# Altium footprint library HARTING Footprints.PcbLib: 317 footprints (part 16 of 20)
Each footprint in its own frame and in the unit in brackets; x right, y up, seen from the top. Pads: shape width x height; smd on the part's side, far side on the other; paste and mask are expansions set on the pad; w line width, h text height; cw(c..) or ccw(c..) is an arc to the next point about the centre after c.
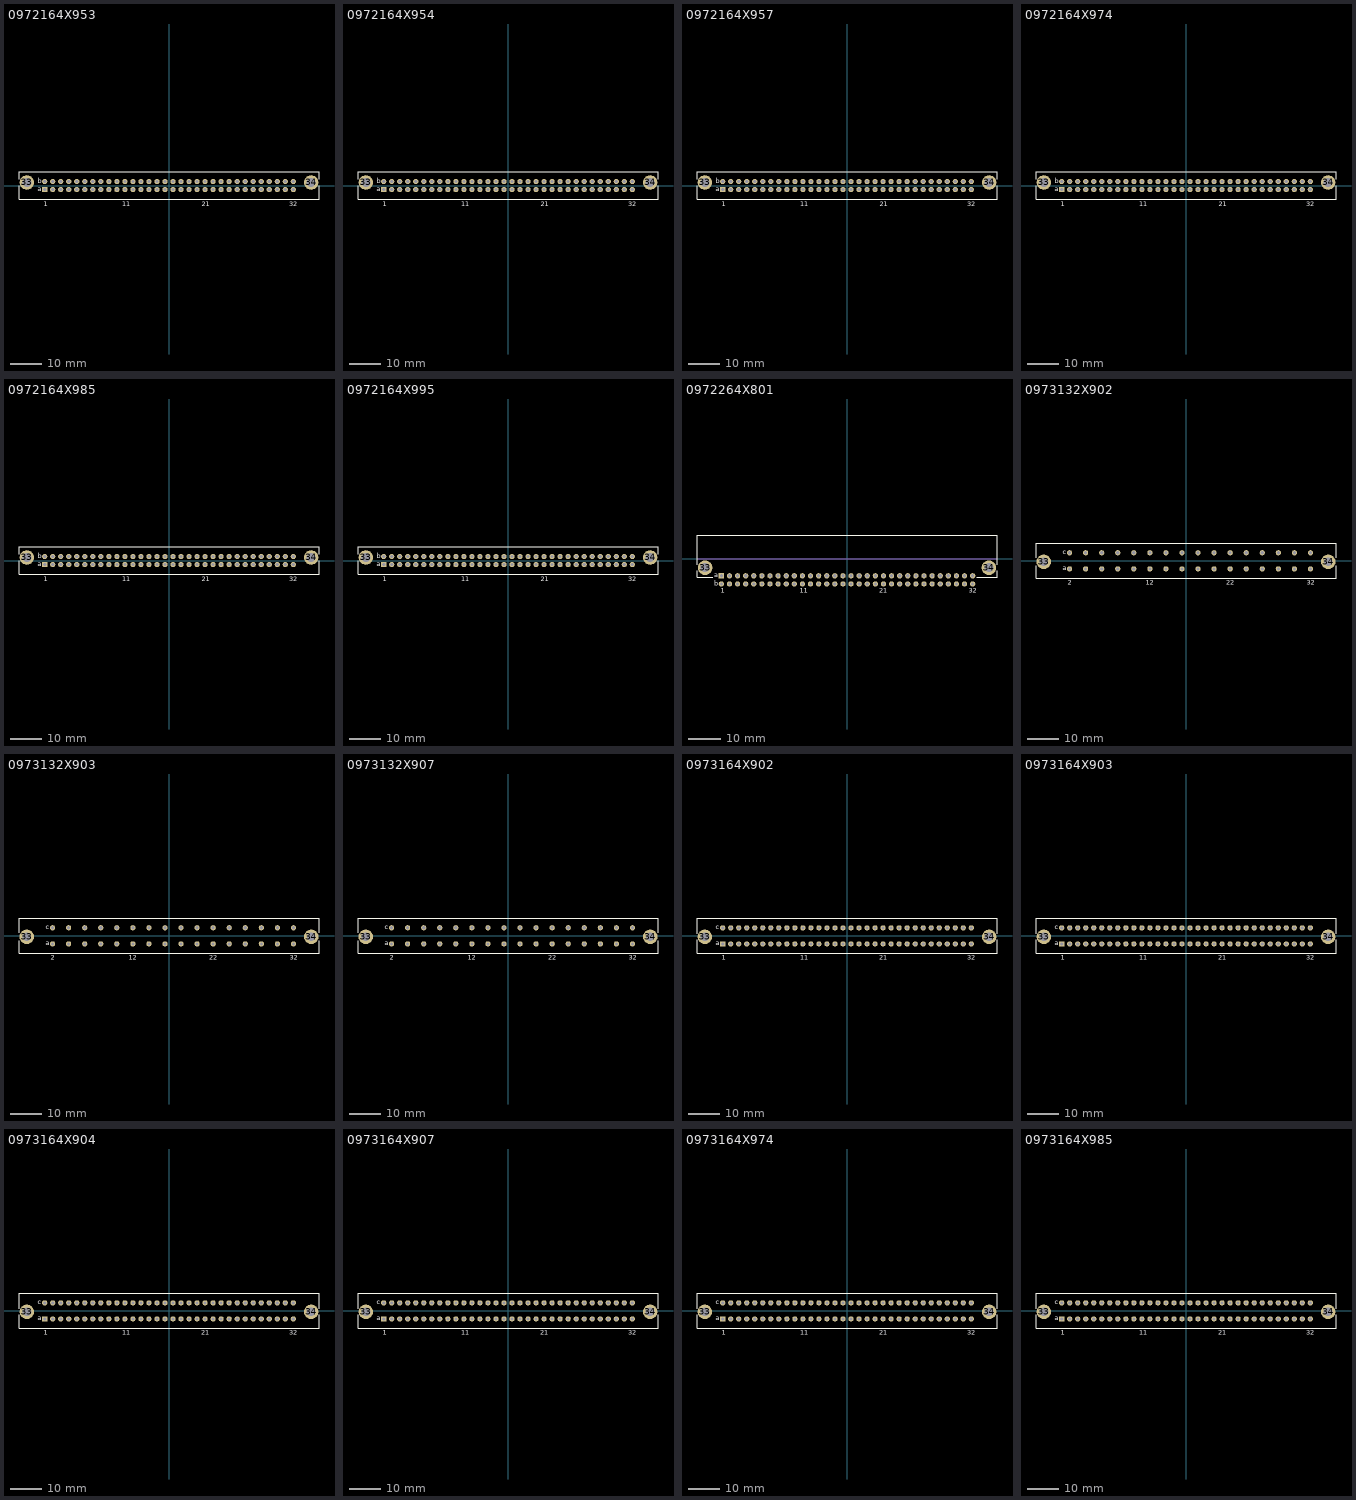
[diagram p15: the footprints below, top view; thin cyan lines are the x and y axes]

## 0972164X953 [mm] "Connector; DIN 41612, Type Q, Thru-Hole; Rows a+b, 64 Position; Vertical"
height 11.6
pads (66):
  round 4.6 hole 2.8: 33(-45,0.97) 34(45,0.97)
  rect 1.65x1.65 hole 1: A1(-39.37,-1.27)
  round 1.65 hole 1: A2(-36.83,-1.27) A3(-34.29,-1.27) A4(-31.75,-1.27) A5(-29.21,-1.27) A6(-26.67,-1.27) A7(-24.13,-1.27) A8(-21.59,-1.27) A9(-19.05,-1.27) A10(-16.51,-1.27) A11(-13.97,-1.27) A12(-11.43,-1.27) A13(-8.89,-1.27) A14(-6.35,-1.27) A15(-3.81,-1.27) A16(-1.27,-1.27) A17(1.27,-1.27) A18(3.81,-1.27) A19(6.35,-1.27) A20(8.89,-1.27) A21(11.43,-1.27) A22(13.97,-1.27) A23(16.51,-1.27) A24(19.05,-1.27) A25(21.59,-1.27) A26(24.13,-1.27) A27(26.67,-1.27) A28(29.21,-1.27) A29(31.75,-1.27) A30(34.29,-1.27) A31(36.83,-1.27) A32(39.37,-1.27) B1(-39.37,1.27) B2(-36.83,1.27) B3(-34.29,1.27) B4(-31.75,1.27) B5(-29.21,1.27) B6(-26.67,1.27) B7(-24.13,1.27) B8(-21.59,1.27) B9(-19.05,1.27) B10(-16.51,1.27) B11(-13.97,1.27) B12(-11.43,1.27) B13(-8.89,1.27) B14(-6.35,1.27) B15(-3.81,1.27) B16(-1.27,1.27) B17(1.27,1.27) B18(3.81,1.27) B19(6.35,1.27) B20(8.89,1.27) B21(11.43,1.27) B22(13.97,1.27) B23(16.51,1.27) B24(19.05,1.27) B25(21.59,1.27) B26(24.13,1.27) B27(26.67,1.27) B28(29.21,1.27) B29(31.75,1.27) B30(34.29,1.27) B31(36.83,1.27) B32(39.37,1.27)
Top Overlay:
  lines w0.2: -47.5,-0.13 -47.5,-4.3 47.5,-4.3 47.5,-0.13 ; -47.5,2.07 -47.5,4.3 47.5,4.3 47.5,2.07
  text "1" at -39.62,-6.48 h1.5
  text "a" at -41.58,-1.77 h1.5
  text "b" at -41.58,0.77 h1.5
  text "32" at 38.12,-6.48 h1.5
  text "11" at -14.82,-6.48 h1.5
  text "21" at 10.43,-6.48 h1.5

## 0972164X954 [mm] "Connector; DIN 41612, Type Q, Thru-Hole; Rows a+b, 64 Position; Vertical"
height 11.6
pads (66):
  round 4.6 hole 2.8: 33(-45,0.97) 34(45,0.97)
  rect 1.65x1.65 hole 1: A1(-39.37,-1.27)
  round 1.65 hole 1: A2(-36.83,-1.27) A3(-34.29,-1.27) A4(-31.75,-1.27) A5(-29.21,-1.27) A6(-26.67,-1.27) A7(-24.13,-1.27) A8(-21.59,-1.27) A9(-19.05,-1.27) A10(-16.51,-1.27) A11(-13.97,-1.27) A12(-11.43,-1.27) A13(-8.89,-1.27) A14(-6.35,-1.27) A15(-3.81,-1.27) A16(-1.27,-1.27) A17(1.27,-1.27) A18(3.81,-1.27) A19(6.35,-1.27) A20(8.89,-1.27) A21(11.43,-1.27) A22(13.97,-1.27) A23(16.51,-1.27) A24(19.05,-1.27) A25(21.59,-1.27) A26(24.13,-1.27) A27(26.67,-1.27) A28(29.21,-1.27) A29(31.75,-1.27) A30(34.29,-1.27) A31(36.83,-1.27) A32(39.37,-1.27) B1(-39.37,1.27) B2(-36.83,1.27) B3(-34.29,1.27) B4(-31.75,1.27) B5(-29.21,1.27) B6(-26.67,1.27) B7(-24.13,1.27) B8(-21.59,1.27) B9(-19.05,1.27) B10(-16.51,1.27) B11(-13.97,1.27) B12(-11.43,1.27) B13(-8.89,1.27) B14(-6.35,1.27) B15(-3.81,1.27) B16(-1.27,1.27) B17(1.27,1.27) B18(3.81,1.27) B19(6.35,1.27) B20(8.89,1.27) B21(11.43,1.27) B22(13.97,1.27) B23(16.51,1.27) B24(19.05,1.27) B25(21.59,1.27) B26(24.13,1.27) B27(26.67,1.27) B28(29.21,1.27) B29(31.75,1.27) B30(34.29,1.27) B31(36.83,1.27) B32(39.37,1.27)
Top Overlay:
  lines w0.2: -47.5,-0.13 -47.5,-4.3 47.5,-4.3 47.5,-0.13 ; -47.5,2.07 -47.5,4.3 47.5,4.3 47.5,2.07
  text "1" at -39.62,-6.48 h1.5
  text "a" at -41.58,-1.77 h1.5
  text "b" at -41.58,0.77 h1.5
  text "32" at 38.12,-6.48 h1.5
  text "11" at -14.82,-6.48 h1.5
  text "21" at 10.43,-6.48 h1.5

## 0972164X957 [mm] "Connector; DIN 41612, Type Q, Thru-Hole; Rows a+b, 64 Position; Vertical"
height 11.6
pads (66):
  round 4.6 hole 2.8: 33(-45,0.97) 34(45,0.97)
  rect 1.65x1.65 hole 1: A1(-39.37,-1.27)
  round 1.65 hole 1: A2(-36.83,-1.27) A3(-34.29,-1.27) A4(-31.75,-1.27) A5(-29.21,-1.27) A6(-26.67,-1.27) A7(-24.13,-1.27) A8(-21.59,-1.27) A9(-19.05,-1.27) A10(-16.51,-1.27) A11(-13.97,-1.27) A12(-11.43,-1.27) A13(-8.89,-1.27) A14(-6.35,-1.27) A15(-3.81,-1.27) A16(-1.27,-1.27) A17(1.27,-1.27) A18(3.81,-1.27) A19(6.35,-1.27) A20(8.89,-1.27) A21(11.43,-1.27) A22(13.97,-1.27) A23(16.51,-1.27) A24(19.05,-1.27) A25(21.59,-1.27) A26(24.13,-1.27) A27(26.67,-1.27) A28(29.21,-1.27) A29(31.75,-1.27) A30(34.29,-1.27) A31(36.83,-1.27) A32(39.37,-1.27) B1(-39.37,1.27) B2(-36.83,1.27) B3(-34.29,1.27) B4(-31.75,1.27) B5(-29.21,1.27) B6(-26.67,1.27) B7(-24.13,1.27) B8(-21.59,1.27) B9(-19.05,1.27) B10(-16.51,1.27) B11(-13.97,1.27) B12(-11.43,1.27) B13(-8.89,1.27) B14(-6.35,1.27) B15(-3.81,1.27) B16(-1.27,1.27) B17(1.27,1.27) B18(3.81,1.27) B19(6.35,1.27) B20(8.89,1.27) B21(11.43,1.27) B22(13.97,1.27) B23(16.51,1.27) B24(19.05,1.27) B25(21.59,1.27) B26(24.13,1.27) B27(26.67,1.27) B28(29.21,1.27) B29(31.75,1.27) B30(34.29,1.27) B31(36.83,1.27) B32(39.37,1.27)
Top Overlay:
  lines w0.2: -47.5,-0.13 -47.5,-4.3 47.5,-4.3 47.5,-0.13 ; -47.5,2.07 -47.5,4.3 47.5,4.3 47.5,2.07
  text "1" at -39.62,-6.48 h1.5
  text "a" at -41.58,-1.77 h1.5
  text "b" at -41.58,0.77 h1.5
  text "32" at 38.12,-6.48 h1.5
  text "11" at -14.82,-6.48 h1.5
  text "21" at 10.43,-6.48 h1.5

## 0972164X974 [mm] "Connector; DIN 41612, Type Q, Thru-Hole; Rows a+b, 64 Position; Vertical"
height 11.6
pads (66):
  round 4.6 hole 2.8: 33(-45,0.97) 34(45,0.97)
  rect 1.65x1.65 hole 1: A1(-39.37,-1.27)
  round 1.65 hole 1: A2(-36.83,-1.27) A3(-34.29,-1.27) A4(-31.75,-1.27) A5(-29.21,-1.27) A6(-26.67,-1.27) A7(-24.13,-1.27) A8(-21.59,-1.27) A9(-19.05,-1.27) A10(-16.51,-1.27) A11(-13.97,-1.27) A12(-11.43,-1.27) A13(-8.89,-1.27) A14(-6.35,-1.27) A15(-3.81,-1.27) A16(-1.27,-1.27) A17(1.27,-1.27) A18(3.81,-1.27) A19(6.35,-1.27) A20(8.89,-1.27) A21(11.43,-1.27) A22(13.97,-1.27) A23(16.51,-1.27) A24(19.05,-1.27) A25(21.59,-1.27) A26(24.13,-1.27) A27(26.67,-1.27) A28(29.21,-1.27) A29(31.75,-1.27) A30(34.29,-1.27) A31(36.83,-1.27) A32(39.37,-1.27) B1(-39.37,1.27) B2(-36.83,1.27) B3(-34.29,1.27) B4(-31.75,1.27) B5(-29.21,1.27) B6(-26.67,1.27) B7(-24.13,1.27) B8(-21.59,1.27) B9(-19.05,1.27) B10(-16.51,1.27) B11(-13.97,1.27) B12(-11.43,1.27) B13(-8.89,1.27) B14(-6.35,1.27) B15(-3.81,1.27) B16(-1.27,1.27) B17(1.27,1.27) B18(3.81,1.27) B19(6.35,1.27) B20(8.89,1.27) B21(11.43,1.27) B22(13.97,1.27) B23(16.51,1.27) B24(19.05,1.27) B25(21.59,1.27) B26(24.13,1.27) B27(26.67,1.27) B28(29.21,1.27) B29(31.75,1.27) B30(34.29,1.27) B31(36.83,1.27) B32(39.37,1.27)
Top Overlay:
  lines w0.2: -47.5,-0.13 -47.5,-4.3 47.5,-4.3 47.5,-0.13 ; -47.5,2.07 -47.5,4.3 47.5,4.3 47.5,2.07
  text "1" at -39.62,-6.48 h1.5
  text "a" at -41.58,-1.77 h1.5
  text "b" at -41.58,0.77 h1.5
  text "32" at 38.12,-6.48 h1.5
  text "11" at -14.82,-6.48 h1.5
  text "21" at 10.43,-6.48 h1.5

## 0972164X985 [mm] "Connector; DIN 41612, Type Q, Thru-Hole; Rows a+b, 64 Position; Vertical"
height 11.6
pads (66):
  round 4.6 hole 2.8: 33(-45,0.97) 34(45,0.97)
  rect 1.65x1.65 hole 1: A1(-39.37,-1.27)
  round 1.65 hole 1: A2(-36.83,-1.27) A3(-34.29,-1.27) A4(-31.75,-1.27) A5(-29.21,-1.27) A6(-26.67,-1.27) A7(-24.13,-1.27) A8(-21.59,-1.27) A9(-19.05,-1.27) A10(-16.51,-1.27) A11(-13.97,-1.27) A12(-11.43,-1.27) A13(-8.89,-1.27) A14(-6.35,-1.27) A15(-3.81,-1.27) A16(-1.27,-1.27) A17(1.27,-1.27) A18(3.81,-1.27) A19(6.35,-1.27) A20(8.89,-1.27) A21(11.43,-1.27) A22(13.97,-1.27) A23(16.51,-1.27) A24(19.05,-1.27) A25(21.59,-1.27) A26(24.13,-1.27) A27(26.67,-1.27) A28(29.21,-1.27) A29(31.75,-1.27) A30(34.29,-1.27) A31(36.83,-1.27) A32(39.37,-1.27) B1(-39.37,1.27) B2(-36.83,1.27) B3(-34.29,1.27) B4(-31.75,1.27) B5(-29.21,1.27) B6(-26.67,1.27) B7(-24.13,1.27) B8(-21.59,1.27) B9(-19.05,1.27) B10(-16.51,1.27) B11(-13.97,1.27) B12(-11.43,1.27) B13(-8.89,1.27) B14(-6.35,1.27) B15(-3.81,1.27) B16(-1.27,1.27) B17(1.27,1.27) B18(3.81,1.27) B19(6.35,1.27) B20(8.89,1.27) B21(11.43,1.27) B22(13.97,1.27) B23(16.51,1.27) B24(19.05,1.27) B25(21.59,1.27) B26(24.13,1.27) B27(26.67,1.27) B28(29.21,1.27) B29(31.75,1.27) B30(34.29,1.27) B31(36.83,1.27) B32(39.37,1.27)
Top Overlay:
  lines w0.2: -47.5,-0.13 -47.5,-4.3 47.5,-4.3 47.5,-0.13 ; -47.5,2.07 -47.5,4.3 47.5,4.3 47.5,2.07
  text "1" at -39.62,-6.48 h1.5
  text "a" at -41.58,-1.77 h1.5
  text "b" at -41.58,0.77 h1.5
  text "32" at 38.12,-6.48 h1.5
  text "11" at -14.82,-6.48 h1.5
  text "21" at 10.43,-6.48 h1.5

## 0972164X995 [mm] "Connector; DIN 41612, Type Q, Thru-Hole; Rows a+b, 64 Position; Vertical"
height 11.6
pads (66):
  round 4.6 hole 2.8: 33(-45,0.97) 34(45,0.97)
  rect 1.65x1.65 hole 1: A1(-39.37,-1.27)
  round 1.65 hole 1: A2(-36.83,-1.27) A3(-34.29,-1.27) A4(-31.75,-1.27) A5(-29.21,-1.27) A6(-26.67,-1.27) A7(-24.13,-1.27) A8(-21.59,-1.27) A9(-19.05,-1.27) A10(-16.51,-1.27) A11(-13.97,-1.27) A12(-11.43,-1.27) A13(-8.89,-1.27) A14(-6.35,-1.27) A15(-3.81,-1.27) A16(-1.27,-1.27) A17(1.27,-1.27) A18(3.81,-1.27) A19(6.35,-1.27) A20(8.89,-1.27) A21(11.43,-1.27) A22(13.97,-1.27) A23(16.51,-1.27) A24(19.05,-1.27) A25(21.59,-1.27) A26(24.13,-1.27) A27(26.67,-1.27) A28(29.21,-1.27) A29(31.75,-1.27) A30(34.29,-1.27) A31(36.83,-1.27) A32(39.37,-1.27) B1(-39.37,1.27) B2(-36.83,1.27) B3(-34.29,1.27) B4(-31.75,1.27) B5(-29.21,1.27) B6(-26.67,1.27) B7(-24.13,1.27) B8(-21.59,1.27) B9(-19.05,1.27) B10(-16.51,1.27) B11(-13.97,1.27) B12(-11.43,1.27) B13(-8.89,1.27) B14(-6.35,1.27) B15(-3.81,1.27) B16(-1.27,1.27) B17(1.27,1.27) B18(3.81,1.27) B19(6.35,1.27) B20(8.89,1.27) B21(11.43,1.27) B22(13.97,1.27) B23(16.51,1.27) B24(19.05,1.27) B25(21.59,1.27) B26(24.13,1.27) B27(26.67,1.27) B28(29.21,1.27) B29(31.75,1.27) B30(34.29,1.27) B31(36.83,1.27) B32(39.37,1.27)
Top Overlay:
  lines w0.2: -47.5,-0.13 -47.5,-4.3 47.5,-4.3 47.5,-0.13 ; -47.5,2.07 -47.5,4.3 47.5,4.3 47.5,2.07
  text "1" at -39.62,-6.48 h1.5
  text "a" at -41.58,-1.77 h1.5
  text "b" at -41.58,0.77 h1.5
  text "32" at 38.12,-6.48 h1.5
  text "11" at -14.82,-6.48 h1.5
  text "21" at 10.43,-6.48 h1.5

## 0972264X801 [mm] "Connector; DIN 41612, Type Q, Thru-Hole; Rows a+b, 64 Position; Right Angle"
height 8.6
pads (66):
  round 4.6 hole 2.8: 33(-44.45,-2.76) 34(44.45,-2.76)
  rect 1.65x1.65 hole 1: A1(-39.37,-5.3)
  round 1.65 hole 1: A2(-36.83,-5.3) A3(-34.29,-5.3) A4(-31.75,-5.3) A5(-29.21,-5.3) A6(-26.67,-5.3) A7(-24.13,-5.3) A8(-21.59,-5.3) A9(-19.05,-5.3) A10(-16.51,-5.3) A11(-13.97,-5.3) A12(-11.43,-5.3) A13(-8.89,-5.3) A14(-6.35,-5.3) A15(-3.81,-5.3) A16(-1.27,-5.3) A17(1.27,-5.3) A18(3.81,-5.3) A19(6.35,-5.3) A20(8.89,-5.3) A21(11.43,-5.3) A22(13.97,-5.3) A23(16.51,-5.3) A24(19.05,-5.3) A25(21.59,-5.3) A26(24.13,-5.3) A27(26.67,-5.3) A28(29.21,-5.3) A29(31.75,-5.3) A30(34.29,-5.3) A31(36.83,-5.3) A32(39.37,-5.3) B1(-39.37,-7.84) B2(-36.83,-7.84) B3(-34.29,-7.84) B4(-31.75,-7.84) B5(-29.21,-7.84) B6(-26.67,-7.84) B7(-24.13,-7.84) B8(-21.59,-7.84) B9(-19.05,-7.84) B10(-16.51,-7.84) B11(-13.97,-7.84) B12(-11.43,-7.84) B13(-8.89,-7.84) B14(-6.35,-7.84) B15(-3.81,-7.84) B16(-1.27,-7.84) B17(1.27,-7.84) B18(3.81,-7.84) B19(6.35,-7.84) B20(8.89,-7.84) B21(11.43,-7.84) B22(13.97,-7.84) B23(16.51,-7.84) B24(19.05,-7.84) B25(21.59,-7.84) B26(24.13,-7.84) B27(26.67,-7.84) B28(29.21,-7.84) B29(31.75,-7.84) B30(34.29,-7.84) B31(36.83,-7.84) B32(39.37,-7.84)
Top Overlay:
  lines w0.2: -47,-3.76 -47,-5.8 -42.07,-5.8 ; -47,-1.76 -47,7.34 47,7.34 47,-1.76 ; 40.595,-5.8 47,-5.8 47,-3.76
  text "1" at -39.62,-10.54 h1.5
  text "a" at -41.58,-5.8 h1.5
  text "b" at -41.58,-8.34 h1.5
  text "32" at 38.12,-10.54 h1.5
  text "11" at -14.845,-10.54 h1.5
  text "21" at 10.18,-10.54 h1.5
Mechanical 1:
  lines w0.1: -47,0 47,0
  text "PCB Edge" at -46.47,0.5 h0.6

## 0973132X902 [mm] "Connector; DIN 41612, Type R, Thru-Hole; Rows a+c, 32 Position; Vertical"
height 11.6
pads (34):
  round 4.6 hole 2.8: 33(-45,-0.3) 34(45,-0.3)
  round 1.65 hole 1: A2(-36.83,-2.54) A4(-31.75,-2.54) A6(-26.67,-2.54) A8(-21.59,-2.54) A10(-16.51,-2.54) A12(-11.43,-2.54) A14(-6.35,-2.54) A16(-1.27,-2.54) A18(3.81,-2.54) A20(8.89,-2.54) A22(13.97,-2.54) A24(19.05,-2.54) A26(24.13,-2.54) A28(29.21,-2.54) A30(34.29,-2.54) A32(39.37,-2.54) C2(-36.83,2.54) C4(-31.75,2.54) C6(-26.67,2.54) C8(-21.59,2.54) C10(-16.51,2.54) C12(-11.43,2.54) C14(-6.35,2.54) C16(-1.27,2.54) C18(3.81,2.54) C20(8.89,2.54) C22(13.97,2.54) C24(19.05,2.54) C26(24.13,2.54) C28(29.21,2.54) C30(34.29,2.54) C32(39.37,2.54)
Top Overlay:
  lines w0.2: -47.45,-1.5 -47.45,-5.55 47.45,-5.55 47.45,-1.5 ; -47.45,0.9 -47.45,5.55 47.45,5.55 ; 47.45,0.9 47.45,5.45
  text "2" at -37.33,-7.55 h1.5
  text "a" at -39.04,-3.04 h1.5
  text "c" at -39.04,2.04 h1.5
  text "32" at 38.12,-7.55 h1.5
  text "12" at -12.68,-7.55 h1.5
  text "22" at 12.72,-7.55 h1.5

## 0973132X903 [mm] "Connector; DIN 41612, Type R, Thru-Hole; Rows a+c, 32 Position; Vertical"
height 11.6
pads (34):
  round 4.6 hole 2.8: 33(-45,-0.3) 34(45,-0.3)
  round 1.65 hole 1: A2(-36.83,-2.54) A4(-31.75,-2.54) A6(-26.67,-2.54) A8(-21.59,-2.54) A10(-16.51,-2.54) A12(-11.43,-2.54) A14(-6.35,-2.54) A16(-1.27,-2.54) A18(3.81,-2.54) A20(8.89,-2.54) A22(13.97,-2.54) A24(19.05,-2.54) A26(24.13,-2.54) A28(29.21,-2.54) A30(34.29,-2.54) A32(39.37,-2.54) C2(-36.83,2.54) C4(-31.75,2.54) C6(-26.67,2.54) C8(-21.59,2.54) C10(-16.51,2.54) C12(-11.43,2.54) C14(-6.35,2.54) C16(-1.27,2.54) C18(3.81,2.54) C20(8.89,2.54) C22(13.97,2.54) C24(19.05,2.54) C26(24.13,2.54) C28(29.21,2.54) C30(34.29,2.54) C32(39.37,2.54)
Top Overlay:
  lines w0.2: -47.45,-1.5 -47.45,-5.55 47.45,-5.55 47.45,-1.5 ; -47.45,0.9 -47.45,5.55 47.45,5.55 ; 47.45,0.9 47.45,5.45
  text "2" at -37.33,-7.55 h1.5
  text "a" at -39.04,-3.04 h1.5
  text "c" at -39.04,2.04 h1.5
  text "32" at 38.12,-7.55 h1.5
  text "12" at -12.68,-7.55 h1.5
  text "22" at 12.72,-7.55 h1.5

## 0973132X907 [mm] "Connector; DIN 41612, Type R, Thru-Hole; Rows a+c, 32 Position; Vertical"
height 11.6
pads (34):
  round 4.6 hole 2.8: 33(-45,-0.3) 34(45,-0.3)
  round 1.65 hole 1: A2(-36.83,-2.54) A4(-31.75,-2.54) A6(-26.67,-2.54) A8(-21.59,-2.54) A10(-16.51,-2.54) A12(-11.43,-2.54) A14(-6.35,-2.54) A16(-1.27,-2.54) A18(3.81,-2.54) A20(8.89,-2.54) A22(13.97,-2.54) A24(19.05,-2.54) A26(24.13,-2.54) A28(29.21,-2.54) A30(34.29,-2.54) A32(39.37,-2.54) C2(-36.83,2.54) C4(-31.75,2.54) C6(-26.67,2.54) C8(-21.59,2.54) C10(-16.51,2.54) C12(-11.43,2.54) C14(-6.35,2.54) C16(-1.27,2.54) C18(3.81,2.54) C20(8.89,2.54) C22(13.97,2.54) C24(19.05,2.54) C26(24.13,2.54) C28(29.21,2.54) C30(34.29,2.54) C32(39.37,2.54)
Top Overlay:
  lines w0.2: -47.45,-1.5 -47.45,-5.55 47.45,-5.55 47.45,-1.5 ; -47.45,0.9 -47.45,5.55 47.45,5.55 ; 47.45,0.9 47.45,5.45
  text "2" at -37.33,-7.55 h1.5
  text "a" at -39.04,-3.04 h1.5
  text "c" at -39.04,2.04 h1.5
  text "32" at 38.12,-7.55 h1.5
  text "12" at -12.68,-7.55 h1.5
  text "22" at 12.72,-7.55 h1.5

## 0973164X902 [mm] "Connector; DIN 41612, Type R, Thru-Hole; Rows a+c, 64 Position; Vertical"
height 11.6
pads (66):
  round 4.6 hole 2.8: 33(-45,-0.3) 34(45,-0.3)
  rect 1.65x1.65 hole 1: A1(-39.37,-2.54)
  round 1.65 hole 1: A2(-36.83,-2.54) A3(-34.29,-2.54) A4(-31.75,-2.54) A5(-29.21,-2.54) A6(-26.67,-2.54) A7(-24.13,-2.54) A8(-21.59,-2.54) A9(-19.05,-2.54) A10(-16.51,-2.54) A11(-13.97,-2.54) A12(-11.43,-2.54) A13(-8.89,-2.54) A14(-6.35,-2.54) A15(-3.81,-2.54) A16(-1.27,-2.54) A17(1.27,-2.54) A18(3.81,-2.54) A19(6.35,-2.54) A20(8.89,-2.54) A21(11.43,-2.54) A22(13.97,-2.54) A23(16.51,-2.54) A24(19.05,-2.54) A25(21.59,-2.54) A26(24.13,-2.54) A27(26.67,-2.54) A28(29.21,-2.54) A29(31.75,-2.54) A30(34.29,-2.54) A31(36.83,-2.54) A32(39.37,-2.54) C1(-39.37,2.54) C2(-36.83,2.54) C3(-34.29,2.54) C4(-31.75,2.54) C5(-29.21,2.54) C6(-26.67,2.54) C7(-24.13,2.54) C8(-21.59,2.54) C9(-19.05,2.54) C10(-16.51,2.54) C11(-13.97,2.54) C12(-11.43,2.54) C13(-8.89,2.54) C14(-6.35,2.54) C15(-3.81,2.54) C16(-1.27,2.54) C17(1.27,2.54) C18(3.81,2.54) C19(6.35,2.54) C20(8.89,2.54) C21(11.43,2.54) C22(13.97,2.54) C23(16.51,2.54) C24(19.05,2.54) C25(21.59,2.54) C26(24.13,2.54) C27(26.67,2.54) C28(29.21,2.54) C29(31.75,2.54) C30(34.29,2.54) C31(36.83,2.54) C32(39.37,2.54)
Top Overlay:
  lines w0.2: -47.5,-1.3 -47.5,-5.55 47.5,-5.55 47.5,-1.3 ; -47.5,0.7 -47.5,5.55 47.5,5.55 47.5,0.7
  text "21" at 10.18,-7.525 h1.5
  text "11" at -14.82,-7.525 h1.5
  text "32" at 38.12,-7.525 h1.5
  text "c" at -41.58,2.04 h1.5
  text "a" at -41.58,-3.04 h1.5
  text "1" at -39.62,-7.525 h1.5

## 0973164X903 [mm] "Connector; DIN 41612, Type R, Thru-Hole; Rows a+c, 64 Position; Vertical"
height 11.6
pads (66):
  round 4.6 hole 2.8: 33(-45,-0.3) 34(45,-0.3)
  rect 1.65x1.65 hole 1: A1(-39.37,-2.54)
  round 1.65 hole 1: A2(-36.83,-2.54) A3(-34.29,-2.54) A4(-31.75,-2.54) A5(-29.21,-2.54) A6(-26.67,-2.54) A7(-24.13,-2.54) A8(-21.59,-2.54) A9(-19.05,-2.54) A10(-16.51,-2.54) A11(-13.97,-2.54) A12(-11.43,-2.54) A13(-8.89,-2.54) A14(-6.35,-2.54) A15(-3.81,-2.54) A16(-1.27,-2.54) A17(1.27,-2.54) A18(3.81,-2.54) A19(6.35,-2.54) A20(8.89,-2.54) A21(11.43,-2.54) A22(13.97,-2.54) A23(16.51,-2.54) A24(19.05,-2.54) A25(21.59,-2.54) A26(24.13,-2.54) A27(26.67,-2.54) A28(29.21,-2.54) A29(31.75,-2.54) A30(34.29,-2.54) A31(36.83,-2.54) A32(39.37,-2.54) C1(-39.37,2.54) C2(-36.83,2.54) C3(-34.29,2.54) C4(-31.75,2.54) C5(-29.21,2.54) C6(-26.67,2.54) C7(-24.13,2.54) C8(-21.59,2.54) C9(-19.05,2.54) C10(-16.51,2.54) C11(-13.97,2.54) C12(-11.43,2.54) C13(-8.89,2.54) C14(-6.35,2.54) C15(-3.81,2.54) C16(-1.27,2.54) C17(1.27,2.54) C18(3.81,2.54) C19(6.35,2.54) C20(8.89,2.54) C21(11.43,2.54) C22(13.97,2.54) C23(16.51,2.54) C24(19.05,2.54) C25(21.59,2.54) C26(24.13,2.54) C27(26.67,2.54) C28(29.21,2.54) C29(31.75,2.54) C30(34.29,2.54) C31(36.83,2.54) C32(39.37,2.54)
Top Overlay:
  lines w0.2: -47.5,-1.3 -47.5,-5.55 47.5,-5.55 47.5,-1.3 ; -47.5,0.7 -47.5,5.55 47.5,5.55 47.5,0.7
  text "21" at 10.18,-7.525 h1.5
  text "11" at -14.82,-7.525 h1.5
  text "32" at 38.12,-7.525 h1.5
  text "c" at -41.58,2.04 h1.5
  text "a" at -41.58,-3.04 h1.5
  text "1" at -39.62,-7.525 h1.5

## 0973164X904 [mm] "Connector; DIN 41612, Type R, Thru-Hole; Rows a+c, 64 Position; Vertical"
height 11.6
pads (66):
  round 4.6 hole 2.8: 33(-45,-0.3) 34(45,-0.3)
  rect 1.65x1.65 hole 1: A1(-39.37,-2.54)
  round 1.65 hole 1: A2(-36.83,-2.54) A3(-34.29,-2.54) A4(-31.75,-2.54) A5(-29.21,-2.54) A6(-26.67,-2.54) A7(-24.13,-2.54) A8(-21.59,-2.54) A9(-19.05,-2.54) A10(-16.51,-2.54) A11(-13.97,-2.54) A12(-11.43,-2.54) A13(-8.89,-2.54) A14(-6.35,-2.54) A15(-3.81,-2.54) A16(-1.27,-2.54) A17(1.27,-2.54) A18(3.81,-2.54) A19(6.35,-2.54) A20(8.89,-2.54) A21(11.43,-2.54) A22(13.97,-2.54) A23(16.51,-2.54) A24(19.05,-2.54) A25(21.59,-2.54) A26(24.13,-2.54) A27(26.67,-2.54) A28(29.21,-2.54) A29(31.75,-2.54) A30(34.29,-2.54) A31(36.83,-2.54) A32(39.37,-2.54) C1(-39.37,2.54) C2(-36.83,2.54) C3(-34.29,2.54) C4(-31.75,2.54) C5(-29.21,2.54) C6(-26.67,2.54) C7(-24.13,2.54) C8(-21.59,2.54) C9(-19.05,2.54) C10(-16.51,2.54) C11(-13.97,2.54) C12(-11.43,2.54) C13(-8.89,2.54) C14(-6.35,2.54) C15(-3.81,2.54) C16(-1.27,2.54) C17(1.27,2.54) C18(3.81,2.54) C19(6.35,2.54) C20(8.89,2.54) C21(11.43,2.54) C22(13.97,2.54) C23(16.51,2.54) C24(19.05,2.54) C25(21.59,2.54) C26(24.13,2.54) C27(26.67,2.54) C28(29.21,2.54) C29(31.75,2.54) C30(34.29,2.54) C31(36.83,2.54) C32(39.37,2.54)
Top Overlay:
  lines w0.2: -47.5,-1.3 -47.5,-5.55 47.5,-5.55 47.5,-1.3 ; -47.5,0.7 -47.5,5.55 47.5,5.55 47.5,0.7
  text "21" at 10.18,-7.525 h1.5
  text "11" at -14.82,-7.525 h1.5
  text "32" at 38.12,-7.525 h1.5
  text "c" at -41.58,2.04 h1.5
  text "a" at -41.58,-3.04 h1.5
  text "1" at -39.62,-7.525 h1.5

## 0973164X907 [mm] "Connector; DIN 41612, Type R, Thru-Hole; Rows a+c, 64 Position; Vertical"
height 11.6
pads (66):
  round 4.6 hole 2.8: 33(-45,-0.3) 34(45,-0.3)
  rect 1.65x1.65 hole 1: A1(-39.37,-2.54)
  round 1.65 hole 1: A2(-36.83,-2.54) A3(-34.29,-2.54) A4(-31.75,-2.54) A5(-29.21,-2.54) A6(-26.67,-2.54) A7(-24.13,-2.54) A8(-21.59,-2.54) A9(-19.05,-2.54) A10(-16.51,-2.54) A11(-13.97,-2.54) A12(-11.43,-2.54) A13(-8.89,-2.54) A14(-6.35,-2.54) A15(-3.81,-2.54) A16(-1.27,-2.54) A17(1.27,-2.54) A18(3.81,-2.54) A19(6.35,-2.54) A20(8.89,-2.54) A21(11.43,-2.54) A22(13.97,-2.54) A23(16.51,-2.54) A24(19.05,-2.54) A25(21.59,-2.54) A26(24.13,-2.54) A27(26.67,-2.54) A28(29.21,-2.54) A29(31.75,-2.54) A30(34.29,-2.54) A31(36.83,-2.54) A32(39.37,-2.54) C1(-39.37,2.54) C2(-36.83,2.54) C3(-34.29,2.54) C4(-31.75,2.54) C5(-29.21,2.54) C6(-26.67,2.54) C7(-24.13,2.54) C8(-21.59,2.54) C9(-19.05,2.54) C10(-16.51,2.54) C11(-13.97,2.54) C12(-11.43,2.54) C13(-8.89,2.54) C14(-6.35,2.54) C15(-3.81,2.54) C16(-1.27,2.54) C17(1.27,2.54) C18(3.81,2.54) C19(6.35,2.54) C20(8.89,2.54) C21(11.43,2.54) C22(13.97,2.54) C23(16.51,2.54) C24(19.05,2.54) C25(21.59,2.54) C26(24.13,2.54) C27(26.67,2.54) C28(29.21,2.54) C29(31.75,2.54) C30(34.29,2.54) C31(36.83,2.54) C32(39.37,2.54)
Top Overlay:
  lines w0.2: -47.5,-1.3 -47.5,-5.55 47.5,-5.55 47.5,-1.3 ; -47.5,0.7 -47.5,5.55 47.5,5.55 47.5,0.7
  text "21" at 10.18,-7.525 h1.5
  text "11" at -14.82,-7.525 h1.5
  text "32" at 38.12,-7.525 h1.5
  text "c" at -41.58,2.04 h1.5
  text "a" at -41.58,-3.04 h1.5
  text "1" at -39.62,-7.525 h1.5

## 0973164X974 [mm] "Connector; DIN 41612, Type R, Thru-Hole; Rows a+c, 64 Position; Vertical"
height 11.6
pads (66):
  round 4.6 hole 2.8: 33(-45,-0.3) 34(45,-0.3)
  rect 1.65x1.65 hole 1: A1(-39.37,-2.54)
  round 1.65 hole 1: A2(-36.83,-2.54) A3(-34.29,-2.54) A4(-31.75,-2.54) A5(-29.21,-2.54) A6(-26.67,-2.54) A7(-24.13,-2.54) A8(-21.59,-2.54) A9(-19.05,-2.54) A10(-16.51,-2.54) A11(-13.97,-2.54) A12(-11.43,-2.54) A13(-8.89,-2.54) A14(-6.35,-2.54) A15(-3.81,-2.54) A16(-1.27,-2.54) A17(1.27,-2.54) A18(3.81,-2.54) A19(6.35,-2.54) A20(8.89,-2.54) A21(11.43,-2.54) A22(13.97,-2.54) A23(16.51,-2.54) A24(19.05,-2.54) A25(21.59,-2.54) A26(24.13,-2.54) A27(26.67,-2.54) A28(29.21,-2.54) A29(31.75,-2.54) A30(34.29,-2.54) A31(36.83,-2.54) A32(39.37,-2.54) C1(-39.37,2.54) C2(-36.83,2.54) C3(-34.29,2.54) C4(-31.75,2.54) C5(-29.21,2.54) C6(-26.67,2.54) C7(-24.13,2.54) C8(-21.59,2.54) C9(-19.05,2.54) C10(-16.51,2.54) C11(-13.97,2.54) C12(-11.43,2.54) C13(-8.89,2.54) C14(-6.35,2.54) C15(-3.81,2.54) C16(-1.27,2.54) C17(1.27,2.54) C18(3.81,2.54) C19(6.35,2.54) C20(8.89,2.54) C21(11.43,2.54) C22(13.97,2.54) C23(16.51,2.54) C24(19.05,2.54) C25(21.59,2.54) C26(24.13,2.54) C27(26.67,2.54) C28(29.21,2.54) C29(31.75,2.54) C30(34.29,2.54) C31(36.83,2.54) C32(39.37,2.54)
Top Overlay:
  lines w0.2: -47.5,-1.3 -47.5,-5.55 47.5,-5.55 47.5,-1.3 ; -47.5,0.7 -47.5,5.55 47.5,5.55 47.5,0.7
  text "21" at 10.18,-7.525 h1.5
  text "11" at -14.82,-7.525 h1.5
  text "32" at 38.12,-7.525 h1.5
  text "c" at -41.58,2.04 h1.5
  text "a" at -41.58,-3.04 h1.5
  text "1" at -39.62,-7.525 h1.5

## 0973164X985 [mm] "Connector; DIN 41612, Type R, Thru-Hole; Rows a+c, 64 Position; Vertical"
height 11.6
pads (66):
  round 4.6 hole 2.8: 33(-45,-0.3) 34(45,-0.3)
  rect 1.65x1.65 hole 1: A1(-39.37,-2.54)
  round 1.65 hole 1: A2(-36.83,-2.54) A3(-34.29,-2.54) A4(-31.75,-2.54) A5(-29.21,-2.54) A6(-26.67,-2.54) A7(-24.13,-2.54) A8(-21.59,-2.54) A9(-19.05,-2.54) A10(-16.51,-2.54) A11(-13.97,-2.54) A12(-11.43,-2.54) A13(-8.89,-2.54) A14(-6.35,-2.54) A15(-3.81,-2.54) A16(-1.27,-2.54) A17(1.27,-2.54) A18(3.81,-2.54) A19(6.35,-2.54) A20(8.89,-2.54) A21(11.43,-2.54) A22(13.97,-2.54) A23(16.51,-2.54) A24(19.05,-2.54) A25(21.59,-2.54) A26(24.13,-2.54) A27(26.67,-2.54) A28(29.21,-2.54) A29(31.75,-2.54) A30(34.29,-2.54) A31(36.83,-2.54) A32(39.37,-2.54) C1(-39.37,2.54) C2(-36.83,2.54) C3(-34.29,2.54) C4(-31.75,2.54) C5(-29.21,2.54) C6(-26.67,2.54) C7(-24.13,2.54) C8(-21.59,2.54) C9(-19.05,2.54) C10(-16.51,2.54) C11(-13.97,2.54) C12(-11.43,2.54) C13(-8.89,2.54) C14(-6.35,2.54) C15(-3.81,2.54) C16(-1.27,2.54) C17(1.27,2.54) C18(3.81,2.54) C19(6.35,2.54) C20(8.89,2.54) C21(11.43,2.54) C22(13.97,2.54) C23(16.51,2.54) C24(19.05,2.54) C25(21.59,2.54) C26(24.13,2.54) C27(26.67,2.54) C28(29.21,2.54) C29(31.75,2.54) C30(34.29,2.54) C31(36.83,2.54) C32(39.37,2.54)
Top Overlay:
  lines w0.2: -47.5,-1.3 -47.5,-5.55 47.5,-5.55 47.5,-1.3 ; -47.5,0.7 -47.5,5.55 47.5,5.55 47.5,0.7
  text "21" at 10.18,-7.525 h1.5
  text "11" at -14.82,-7.525 h1.5
  text "32" at 38.12,-7.525 h1.5
  text "c" at -41.58,2.04 h1.5
  text "a" at -41.58,-3.04 h1.5
  text "1" at -39.62,-7.525 h1.5